# Altium schematic symbol library 1301.9314.24.SchLib: 1 symbol
Pins are listed as number, name and electrical type; pins without a type are passive.

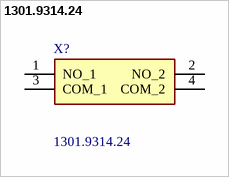
[diagram p0: symbol 1301.9314.24]

## 1301.9314.24
designator X?
Tactile Switches LSH 6X6 SHORT TRAVEL SWITCH 4.3MM; Manufacturer_Name: SCHURTER; Manufacturer_Part_Number: 1301.9314.24; Mouser Part Number: 693-1301.9314.24; Mouser Price/Stock: https://www.mouser.co.uk/ProductDetail/Schurter/1301.9314.24?qs=GIi83qBHgilkrMwKiiKACQ%3D%3D; Arrow Part Number: 1301.9314.24; Arrow Price/Stock: https://www.arrow.com/en/products/1301.9314.24/schurter?region=europe; Datasheet Link: https://us.schurter.com/pdf/english/typ_6x6_mm_tact_switches.pdf; Geometry.Height: 4.3mm
footprint 1301931424
pins: 1 NO_1, 2 NO_2, 3 COM_1, 4 COM_2